# EAGLE library part STM32F103NUCLEO (library UBCSolar)
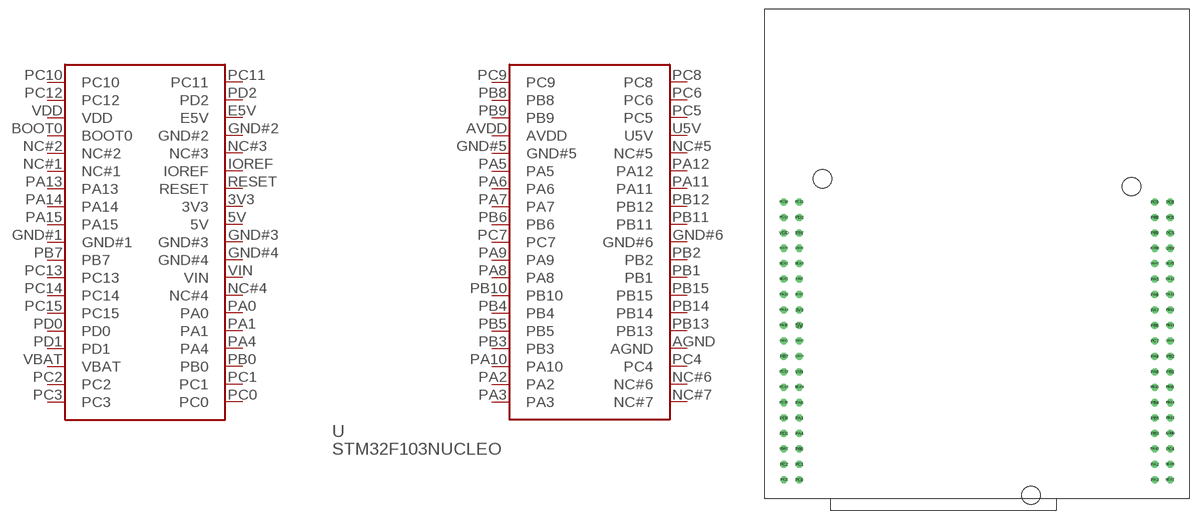
[diagram p1: symbol with the pads of STM32F103NUCLEO; footprint STM32F103NUCLEO]

Designator prefix -

## STM32F103NUCLEO  [STM32F103NUCLEO]
3V3  3V3
5V  5V
AGND  AGND
AVDD  AVDD
BOOT0  BOOT0
E5V  E5V
GND#1  GND#1
GND#2  GND#2
GND#3  GND#3
GND#4  GND#4
GND#5  GND#5
GND#6  GND#6
IOREF  IOREF
NC#1  NC#1
NC#2  NC#2
NC#3  NC#3
NC#4  NC#4
NC#5  NC#5
NC#6  NC#6
NC#7  NC#7
PA0  PA0
PA1  PA1
PA2  PA2
PA3  PA3
PA4  PA4
PA5  PA5
PA6  PA6
PA7  PA7
PA8  PA8
PA9  PA9
PA10  PA10
PA11  PA11
PA12  PA12
PA13  PA13
PA14  PA14
PA15  PA15
PB0  PB0
PB1  PB1
PB2  PB2
PB3  PB3
PB4  PB4
PB5  PB5
PB6  PB6
PB7  PB7
PB8  PB8
PB9  PB9
PB10  PB10
PB11  PB11
PB12  PB12
PB13  PB13
PB14  PB14
PB15  PB15
PC0  PC0
PC1  PC1
PC2  PC2
PC3  PC3
PC4  PC4
PC5  PC5
PC6  PC6
PC7  PC7
PC8  PC8
PC9  PC9
PC10  PC10
PC11  PC11
PC12  PC12
PC13  PC13
PC14  PC14
PC15  PC15
PD0  PD0
PD1  PD1
PD2  PD2
RESET  RESET
U5V  U5V
VBAT  VBAT
VDD  VDD
VIN  VIN

## Footprint STM32F103NUCLEO (pad centres in mm)
drill 0.65 octagon: 3V3 -29.21,27.94; 5V -29.21,25.4; AGND 31.75,7.62; AVDD 29.21,38.1; BOOT0 -31.75,38.1; E5V -29.21,40.64; GND#1 -31.75,22.86; GND#2 -29.21,38.1; GND#3 -29.21,22.86; GND#4 -29.21,20.32; GND#5 29.21,35.56; GND#6 31.75,22.86; IOREF -29.21,33.02; NC#1 -31.75,33.02; NC#2 -31.75,35.56; NC#3 -29.21,35.56; NC#4 -29.21,15.24; NC#5 31.75,35.56; NC#6 31.75,2.54; NC#7 31.75,0; PA0 -29.21,12.7; PA1 -29.21,10.16; PA2 29.21,2.54; PA3 29.21,0; PA4 -29.21,7.62; PA5 29.21,33.02; PA6 29.21,30.48; PA7 29.21,27.94; PA8 29.21,17.78; PA9 29.21,20.32; PA10 29.21,5.08; PA11 31.75,30.48; PA12 31.75,33.02; PA13 -31.75,30.48; PA14 -31.75,27.94; PA15 -31.75,25.4; PB0 -29.21,5.08; PB1 31.75,17.78; PB2 31.75,20.32; PB3 29.21,7.62; PB4 29.21,12.7; PB5 29.21,10.16; PB6 29.21,25.4; PB7 -31.75,20.32; PB8 29.21,43.18; PB9 29.21,40.64; PB10 29.21,15.24; PB11 31.75,25.4; PB12 31.75,27.94; PB13 31.75,10.16; PB14 31.75,12.7; PB15 31.75,15.24; PC0 -29.21,0; PC1 -29.21,2.54; PC2 -31.75,2.54; PC4 31.75,5.08; PC5 31.75,40.64; PC6 31.75,43.18; PC7 29.21,22.86; PC8 31.75,45.72; PC9 29.21,45.72; PC10 -31.75,45.72; PC11 -29.21,45.72; PC12 -31.75,43.18; PC13 -31.75,17.78; PC14 -31.75,15.24; PC15 -31.75,12.7; PD0 -31.75,10.16; PD1 -31.75,7.62; PD2 -29.21,43.18; RESET -29.21,30.48; U5V 31.75,38.1; VBAT -31.75,5.08; VDD -31.75,40.64; VIN -29.21,17.78
drill 0.6 octagon: PC3 -31.75,0
hole 3 at 8.89,-2.54
hole 3 at -25.4,49.53
hole 3 at 25.4,48.26